# Altium integrated library TI Data Converters Analog to Digital Converter.IntLib: 2198 symbols (part 15 of 164)
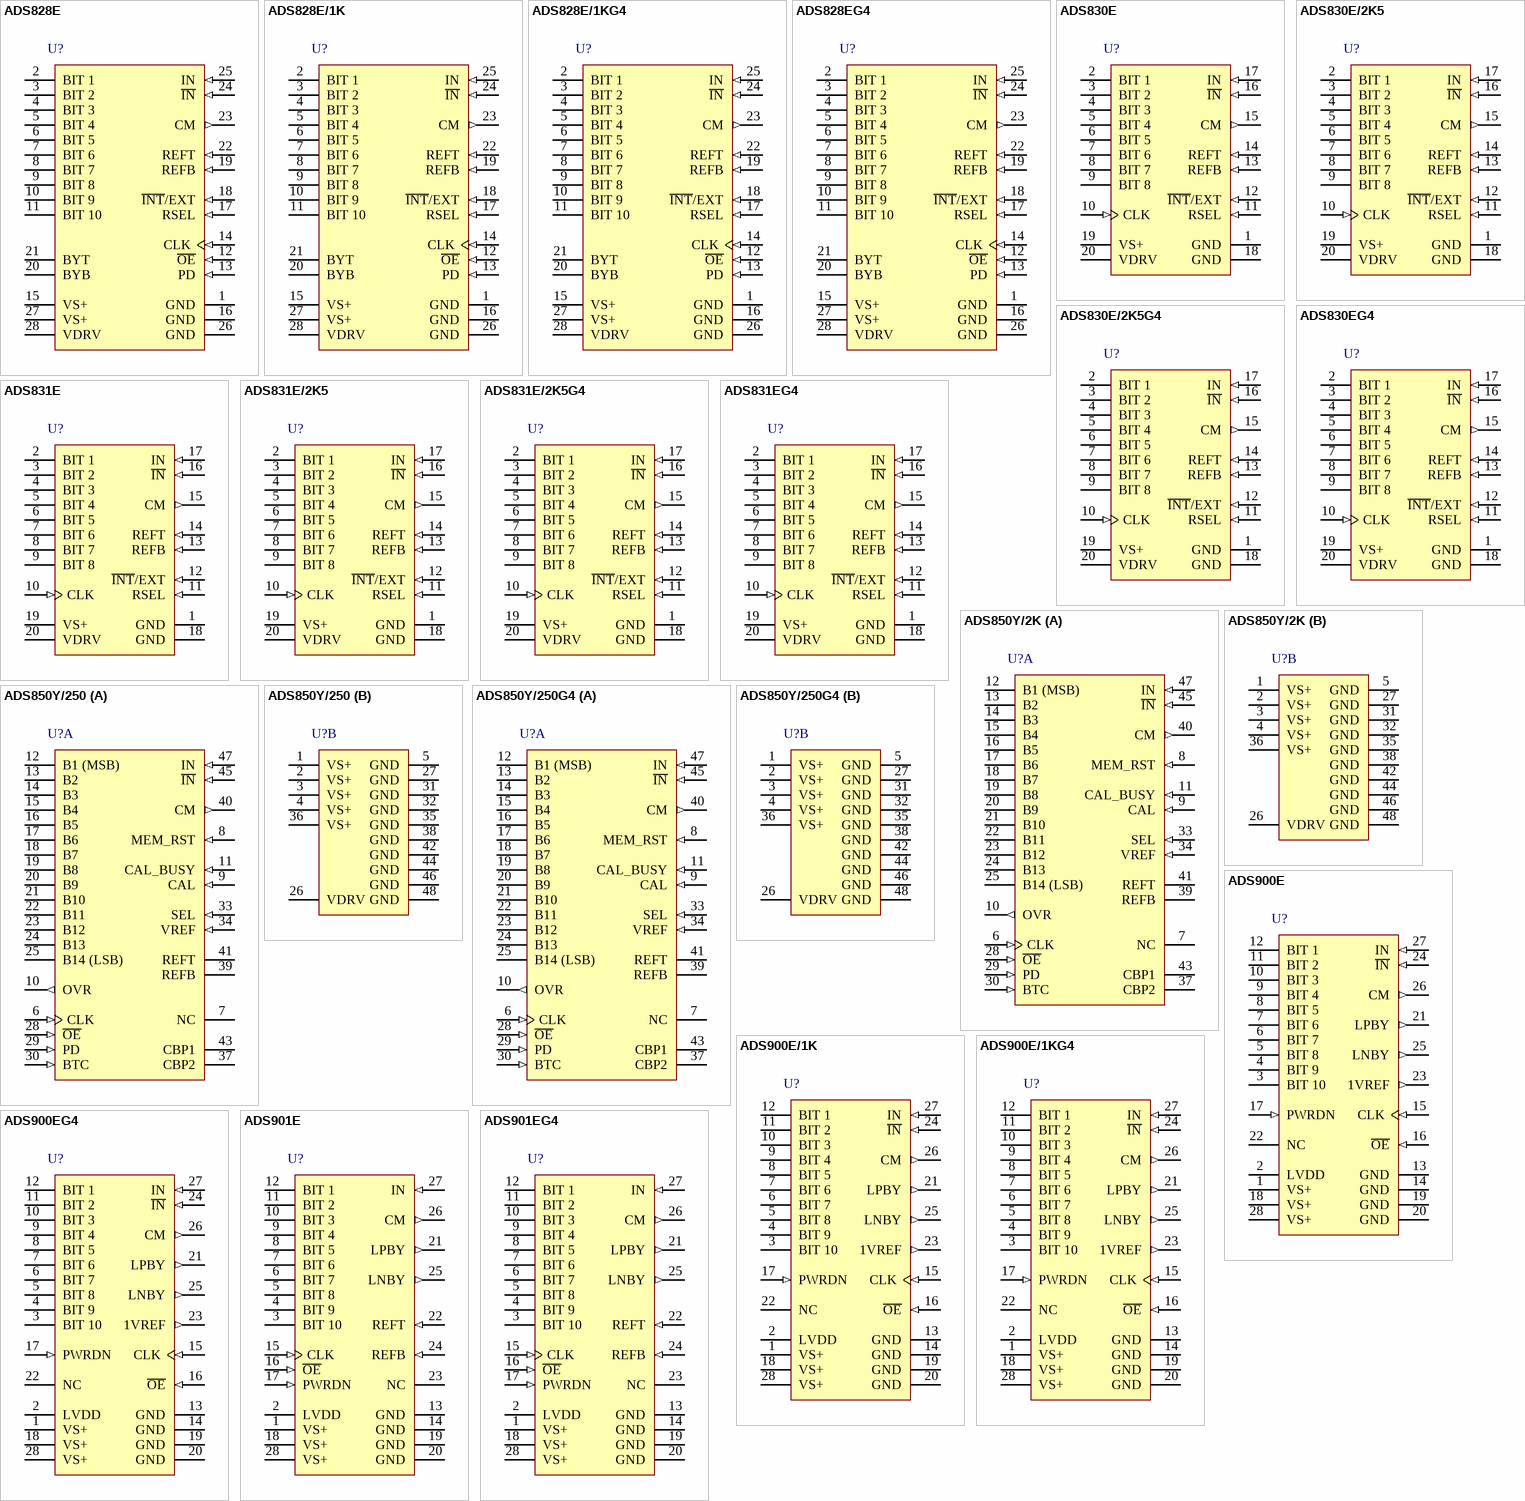
[diagram p140: symbols ADS828E to ADS901EG4]

## ADS900E
designator U?
10-Bit, 20 MSPS ADC Single-Ended / Differential Inputs, Int Reference and Adjustable Fullscale Range, -40 to 85 degC, 28-pin SOP (DB28), Green (RoHS & no Sb/Br); Manufacturer: Texas Instruments; PartNumber: ADS900E; # Input Channels: 1; Analog Voltage AV/DD(Max)(V): 3.7; Analog Voltage AV/DD(Min)(V): 2.7; Architecture: Pipeline; Interface: Parallel CMOS; Resolution(Bits): 10; Sample Rate (max)(SPS): 20M; SFDR(dB): 53; SINAD(dB): 48; SNR(dB): 49; SubFamily: High Speed ADC (>10MSPS); DatasheetVersion: SBAS058A; PackageVersion: 4040065/E, 12/2001; PackageReference: DB28; PackageDescription: 28-Pin Plastic Small Outline, Body 10.2 X 5.3 mm, Pitch 0.65 mm; Supplier 1: Digi-Key; Supplier Part Number 1: 296-2203-5-ND; Digital Supply(Max)(V): 3.7; Digital Supply(Min)(V): 2.7; Eco-Plan: Green (RoHS & no Sb/Br); Mounting Technology: Surface Mount; Code_JEDEC: MO-150; ComponentLink1Description: Manufacturer URL; ComponentLink1URL: http://www.ti.com/; ComponentLink2Description: Datasheet; ComponentLink2URL: http://www.ti.com/general/docs/lit/getliterature.tsp?genericPartNumber=ADS900&fileType=pdf; ComponentLink3Description: Package Specification; ComponentLink3URL: http://www.ti.com/lit/ml/msso002e/msso002e.pdf
footprint TI-DB28_N (SOP, 28-Leads, Body 10.2x5.3mm, Pitch 0.65mm, IPC Medium Density)
footprint TI-DB28_L (SOP, 28-Leads, Body 10.2x5.3mm, Pitch 0.65mm, IPC High Density)
footprint TI-DB28_M (SOP, 28-Leads, Body 10.2x5.3mm, Pitch 0.65mm, IPC Low Density)
pins: 1 VS+ (power) "Analog Supply", 2 LVDD (power) "Output Logic Driver Supply Voltage", 3 BIT 10 (hiz) "Data Bit 10 (D0) (LSB)", 4 BIT 9 (hiz) "Data Bit 9 (D1)", 5 BIT 8 (hiz) "Data Bit 8 (D2)", 6 BIT 7 (hiz) "Data Bit 7 (D3)", 7 BIT 6 (hiz) "Data Bit 6 (D4)", 8 BIT 5 (hiz) "Data Bit 5 (D5)", 9 BIT 4 (hiz) "Data Bit 4 (D6)", 10 BIT 3 (hiz) "Data Bit 3 (D7)", 11 BIT 2 (hiz) "Data Bit 2 (D8)", 12 BIT 1 (hiz) "Data Bit 1 (D9) (MSB)", 13 GND (power) "Analog Ground", 14 GND (power) "Analog Ground", 15 CLK (in) "Convert Clock Input", 16 ~{OE} (in) "Output Enable, Active Low", 17 PWRDN (in) "Power Down Pin", 18 VS+ (power) "Analog Supply", 19 GND (power) "Analog Ground", 20 GND (power) "Analog Ground", 21 LPBY (out) "Positive Ladder Bypass", 22 NC "No Connection", 23 1VREF (out) "1V Reference Output", 24 ~{IN} (in) "Complementary Input", 25 LNBY (out) "Negative Ladder Bypass", 26 CM (out) "Common-Mode Voltage Output", 27 IN (in) "Analog Input", 28 VS+ (power) "Analog Supply"

## ADS900E/1K
designator U?
10-Bit, 20 MSPS ADC Single-Ended / Differential Inputs, Int Reference and Adjustable Fullscale Range, -40 to 85 degC, 28-pin SOP (DB28), Green (RoHS & no Sb/Br); Manufacturer: Texas Instruments; PartNumber: ADS900E/1K; # Input Channels: 1; Analog Voltage AV/DD(Max)(V): 3.7; Analog Voltage AV/DD(Min)(V): 2.7; Architecture: Pipeline; Interface: Parallel CMOS; Resolution(Bits): 10; Sample Rate (max)(SPS): 20M; SFDR(dB): 53; SINAD(dB): 48; SNR(dB): 49; SubFamily: High Speed ADC (>10MSPS); DatasheetVersion: SBAS058A; PackageVersion: 4040065/E, 12/2001; PackageReference: DB28; PackageDescription: 28-Pin Plastic Small Outline, Body 10.2 X 5.3 mm, Pitch 0.65 mm; Supplier 1: Digi-Key; Supplier Part Number 1: TLV2545CDGKG4-ND; Digital Supply(Max)(V): 3.7; Digital Supply(Min)(V): 2.7; Eco-Plan: Green (RoHS & no Sb/Br); Mounting Technology: Surface Mount; Code_JEDEC: MO-150; ComponentLink1Description: Manufacturer URL; ComponentLink1URL: http://www.ti.com/; ComponentLink2Description: Datasheet; ComponentLink2URL: http://www.ti.com/general/docs/lit/getliterature.tsp?genericPartNumber=ADS900&fileType=pdf; ComponentLink3Description: Package Specification; ComponentLink3URL: http://www.ti.com/lit/ml/msso002e/msso002e.pdf
footprint TI-DB28_N (SOP, 28-Leads, Body 10.2x5.3mm, Pitch 0.65mm, IPC Medium Density)
footprint TI-DB28_L (SOP, 28-Leads, Body 10.2x5.3mm, Pitch 0.65mm, IPC High Density)
footprint TI-DB28_M (SOP, 28-Leads, Body 10.2x5.3mm, Pitch 0.65mm, IPC Low Density)
pins: 1 VS+ (power) "Analog Supply", 2 LVDD (power) "Output Logic Driver Supply Voltage", 3 BIT 10 (hiz) "Data Bit 10 (D0) (LSB)", 4 BIT 9 (hiz) "Data Bit 9 (D1)", 5 BIT 8 (hiz) "Data Bit 8 (D2)", 6 BIT 7 (hiz) "Data Bit 7 (D3)", 7 BIT 6 (hiz) "Data Bit 6 (D4)", 8 BIT 5 (hiz) "Data Bit 5 (D5)", 9 BIT 4 (hiz) "Data Bit 4 (D6)", 10 BIT 3 (hiz) "Data Bit 3 (D7)", 11 BIT 2 (hiz) "Data Bit 2 (D8)", 12 BIT 1 (hiz) "Data Bit 1 (D9) (MSB)", 13 GND (power) "Analog Ground", 14 GND (power) "Analog Ground", 15 CLK (in) "Convert Clock Input", 16 ~{OE} (in) "Output Enable, Active Low", 17 PWRDN (in) "Power Down Pin", 18 VS+ (power) "Analog Supply", 19 GND (power) "Analog Ground", 20 GND (power) "Analog Ground", 21 LPBY (out) "Positive Ladder Bypass", 22 NC "No Connection", 23 1VREF (out) "1V Reference Output", 24 ~{IN} (in) "Complementary Input", 25 LNBY (out) "Negative Ladder Bypass", 26 CM (out) "Common-Mode Voltage Output", 27 IN (in) "Analog Input", 28 VS+ (power) "Analog Supply"

## ADS900E/1KG4
designator U?
10-Bit, 20 MSPS ADC Single-Ended / Differential Inputs, Int Reference and Adjustable Fullscale Range, -40 to 85 degC, 28-pin SOP (DB28), Green (RoHS & no Sb/Br); Manufacturer: Texas Instruments; PartNumber: ADS900E/1KG4; # Input Channels: 1; Analog Voltage AV/DD(Max)(V): 3.7; Analog Voltage AV/DD(Min)(V): 2.7; Architecture: Pipeline; Interface: Parallel CMOS; Resolution(Bits): 10; Sample Rate (max)(SPS): 20M; SFDR(dB): 53; SINAD(dB): 48; SNR(dB): 49; SubFamily: High Speed ADC (>10MSPS); DatasheetVersion: SBAS058A; PackageVersion: 4040065/E, 12/2001; PackageReference: DB28; PackageDescription: 28-Pin Plastic Small Outline, Body 10.2 X 5.3 mm, Pitch 0.65 mm; Supplier 1: Digi-Key; Supplier Part Number 1: 296-2985-5-ND; Digital Supply(Max)(V): 3.7; Digital Supply(Min)(V): 2.7; Eco-Plan: Green (RoHS & no Sb/Br); Mounting Technology: Surface Mount; Code_JEDEC: MO-150; ComponentLink1Description: Manufacturer URL; ComponentLink1URL: http://www.ti.com/; ComponentLink2Description: Datasheet; ComponentLink2URL: http://www.ti.com/general/docs/lit/getliterature.tsp?genericPartNumber=ADS900&fileType=pdf; ComponentLink3Description: Package Specification; ComponentLink3URL: http://www.ti.com/lit/ml/msso002e/msso002e.pdf
footprint TI-DB28_N (SOP, 28-Leads, Body 10.2x5.3mm, Pitch 0.65mm, IPC Medium Density)
footprint TI-DB28_L (SOP, 28-Leads, Body 10.2x5.3mm, Pitch 0.65mm, IPC High Density)
footprint TI-DB28_M (SOP, 28-Leads, Body 10.2x5.3mm, Pitch 0.65mm, IPC Low Density)
pins: 1 VS+ (power) "Analog Supply", 2 LVDD (power) "Output Logic Driver Supply Voltage", 3 BIT 10 (hiz) "Data Bit 10 (D0) (LSB)", 4 BIT 9 (hiz) "Data Bit 9 (D1)", 5 BIT 8 (hiz) "Data Bit 8 (D2)", 6 BIT 7 (hiz) "Data Bit 7 (D3)", 7 BIT 6 (hiz) "Data Bit 6 (D4)", 8 BIT 5 (hiz) "Data Bit 5 (D5)", 9 BIT 4 (hiz) "Data Bit 4 (D6)", 10 BIT 3 (hiz) "Data Bit 3 (D7)", 11 BIT 2 (hiz) "Data Bit 2 (D8)", 12 BIT 1 (hiz) "Data Bit 1 (D9) (MSB)", 13 GND (power) "Analog Ground", 14 GND (power) "Analog Ground", 15 CLK (in) "Convert Clock Input", 16 ~{OE} (in) "Output Enable, Active Low", 17 PWRDN (in) "Power Down Pin", 18 VS+ (power) "Analog Supply", 19 GND (power) "Analog Ground", 20 GND (power) "Analog Ground", 21 LPBY (out) "Positive Ladder Bypass", 22 NC "No Connection", 23 1VREF (out) "1V Reference Output", 24 ~{IN} (in) "Complementary Input", 25 LNBY (out) "Negative Ladder Bypass", 26 CM (out) "Common-Mode Voltage Output", 27 IN (in) "Analog Input", 28 VS+ (power) "Analog Supply"

## ADS900EG4
designator U?
10-Bit, 20 MSPS ADC Single-Ended / Differential Inputs, Int Reference and Adjustable Fullscale Range, -40 to 85 degC, 28-pin SOP (DB28), Green (RoHS & no Sb/Br); Manufacturer: Texas Instruments; PartNumber: ADS900EG4; # Input Channels: 1; Analog Voltage AV/DD(Max)(V): 3.7; Analog Voltage AV/DD(Min)(V): 2.7; Architecture: Pipeline; Interface: Parallel CMOS; Resolution(Bits): 10; Sample Rate (max)(SPS): 20M; SFDR(dB): 53; SINAD(dB): 48; SNR(dB): 49; SubFamily: High Speed ADC (>10MSPS); DatasheetVersion: SBAS058A; PackageVersion: 4040065/E, 12/2001; PackageReference: DB28; PackageDescription: 28-Pin Plastic Small Outline, Body 10.2 X 5.3 mm, Pitch 0.65 mm; Supplier 1: Digi-Key; Supplier Part Number 1: TLV2545IDGKG4-ND; Digital Supply(Max)(V): 3.7; Digital Supply(Min)(V): 2.7; Eco-Plan: Green (RoHS & no Sb/Br); Mounting Technology: Surface Mount; Code_JEDEC: MO-150; ComponentLink1Description: Manufacturer URL; ComponentLink1URL: http://www.ti.com/; ComponentLink2Description: Datasheet; ComponentLink2URL: http://www.ti.com/general/docs/lit/getliterature.tsp?genericPartNumber=ADS900&fileType=pdf; ComponentLink3Description: Package Specification; ComponentLink3URL: http://www.ti.com/lit/ml/msso002e/msso002e.pdf
footprint TI-DB28_N (SOP, 28-Leads, Body 10.2x5.3mm, Pitch 0.65mm, IPC Medium Density)
footprint TI-DB28_L (SOP, 28-Leads, Body 10.2x5.3mm, Pitch 0.65mm, IPC High Density)
footprint TI-DB28_M (SOP, 28-Leads, Body 10.2x5.3mm, Pitch 0.65mm, IPC Low Density)
pins: 1 VS+ (power) "Analog Supply", 2 LVDD (power) "Output Logic Driver Supply Voltage", 3 BIT 10 (hiz) "Data Bit 10 (D0) (LSB)", 4 BIT 9 (hiz) "Data Bit 9 (D1)", 5 BIT 8 (hiz) "Data Bit 8 (D2)", 6 BIT 7 (hiz) "Data Bit 7 (D3)", 7 BIT 6 (hiz) "Data Bit 6 (D4)", 8 BIT 5 (hiz) "Data Bit 5 (D5)", 9 BIT 4 (hiz) "Data Bit 4 (D6)", 10 BIT 3 (hiz) "Data Bit 3 (D7)", 11 BIT 2 (hiz) "Data Bit 2 (D8)", 12 BIT 1 (hiz) "Data Bit 1 (D9) (MSB)", 13 GND (power) "Analog Ground", 14 GND (power) "Analog Ground", 15 CLK (in) "Convert Clock Input", 16 ~{OE} (in) "Output Enable, Active Low", 17 PWRDN (in) "Power Down Pin", 18 VS+ (power) "Analog Supply", 19 GND (power) "Analog Ground", 20 GND (power) "Analog Ground", 21 LPBY (out) "Positive Ladder Bypass", 22 NC "No Connection", 23 1VREF (out) "1V Reference Output", 24 ~{IN} (in) "Complementary Input", 25 LNBY (out) "Negative Ladder Bypass", 26 CM (out) "Common-Mode Voltage Output", 27 IN (in) "Analog Input", 28 VS+ (power) "Analog Supply"

## ADS901E
designator U?
10-Bit, 20 MSPS ADC Single-Ended / Differential Inputs, Ext Reference and Adjustable Fullscale Range, -40 to 85 degC, 28-pin SOP (DB28), Green (RoHS & no Sb/Br); Manufacturer: Texas Instruments; PartNumber: ADS901E; # Input Channels: 1; Analog Voltage AV/DD(Max)(V): 3.7; Analog Voltage AV/DD(Min)(V): 2.7; Architecture: Pipeline; Digital Supply(Max)(V): 3; ENOB(Bits): 8; Interface: Parallel CMOS; Resolution(Bits): 10; Sample Rate (max)(SPS): 20M; SFDR(dB): 50; SNR(dB): 53; SubFamily: High Speed ADC (>10MSPS); DatasheetVersion: SBAS054A; PackageVersion: 4040065/E, 12/2001; PackageReference: DB28; PackageDescription: 28-Pin Plastic Small Outline, Body 10.2 X 5.3 mm, Pitch 0.65 mm; Supplier 1: Digi-Key; Supplier Part Number 1: ADS8321ETR-ND; Digital Supply(Min)(V): 3; Eco-Plan: Green (RoHS & no Sb/Br); SINAD(dB): 50; Mounting Technology: Surface Mount; Code_JEDEC: MO-150; ComponentLink1Description: Manufacturer URL; ComponentLink1URL: http://www.ti.com/; ComponentLink2Description: Datasheet; ComponentLink2URL: http://www.ti.com/general/docs/lit/getliterature.tsp?genericPartNumber=ADS901&fileType=pdf; ComponentLink3Description: Package Specification; ComponentLink3URL: http://www.ti.com/lit/ml/msso002e/msso002e.pdf
footprint TI-DB28_N (SOP, 28-Leads, Body 10.2x5.3mm, Pitch 0.65mm, IPC Medium Density)
footprint TI-DB28_L (SOP, 28-Leads, Body 10.2x5.3mm, Pitch 0.65mm, IPC High Density)
footprint TI-DB28_M (SOP, 28-Leads, Body 10.2x5.3mm, Pitch 0.65mm, IPC Low Density)
pins: 1 VS+ (power) "Analog Supply", 2 LVDD (power) "Output Logic Driver Supply Voltage", 3 BIT 10 (hiz) "Data Bit 10 (D0) (LSB)", 4 BIT 9 (hiz) "Data Bit 9 (D1)", 5 BIT 8 (hiz) "Data Bit 8 (D2)", 6 BIT 7 (hiz) "Data Bit 7 (D3)", 7 BIT 6 (hiz) "Data Bit 6 (D4)", 8 BIT 5 (hiz) "Data Bit 5 (D5)", 9 BIT 4 (hiz) "Data Bit 4 (D6)", 10 BIT 3 (hiz) "Data Bit 3 (D7)", 11 BIT 2 (hiz) "Data Bit 2 (D8)", 12 BIT 1 (hiz) "Data Bit 1 (D9) (MSB)", 13 GND (power) "Analog Ground", 14 GND (power) "Analog Ground", 15 CLK (in) "Convert Clock Input", 16 ~{OE} (in) "Output Enable, Active Low", 17 PWRDN (in) "Power Down Pin", 18 VS+ (power) "Analog Supply", 19 GND (power) "Analog Ground", 20 GND (power) "Analog Ground", 21 LPBY (out) "Positive Ladder Bypass", 22 REFT (in) "Top Reference Input", 23 NC "No Connection", 24 REFB (in) "Bottom Reference Input", 25 LNBY (out) "Negative Ladder Bypass", 26 CM (out) "Common-Mode Voltage Output", 27 IN (in) "Analog Input", 28 VS+ (power) "Analog Supply"

## ADS901EG4
designator U?
10-Bit, 20 MSPS ADC Single-Ended / Differential Inputs, Ext Reference and Adjustable Fullscale Range, -40 to 85 degC, 28-pin SOP (DB28), Green (RoHS & no Sb/Br); Manufacturer: Texas Instruments; PartNumber: ADS901EG4; # Input Channels: 1; Analog Voltage AV/DD(Max)(V): 3.7; Analog Voltage AV/DD(Min)(V): 2.7; Architecture: Pipeline; Digital Supply(Max)(V): 3; ENOB(Bits): 8; Interface: Parallel CMOS; Resolution(Bits): 10; Sample Rate (max)(SPS): 20M; SFDR(dB): 50; SNR(dB): 53; SubFamily: High Speed ADC (>10MSPS); DatasheetVersion: SBAS054A; PackageVersion: 4040065/E, 12/2001; PackageReference: DB28; PackageDescription: 28-Pin Plastic Small Outline, Body 10.2 X 5.3 mm, Pitch 0.65 mm; Supplier 1: Digi-Key; Supplier Part Number 1: ADS8321E/250G4-ND; Digital Supply(Min)(V): 3; Eco-Plan: Green (RoHS & no Sb/Br); SINAD(dB): 50; Mounting Technology: Surface Mount; Code_JEDEC: MO-150; ComponentLink1Description: Manufacturer URL; ComponentLink1URL: http://www.ti.com/; ComponentLink2Description: Datasheet; ComponentLink2URL: http://www.ti.com/general/docs/lit/getliterature.tsp?genericPartNumber=ADS901&fileType=pdf; ComponentLink3Description: Package Specification; ComponentLink3URL: http://www.ti.com/lit/ml/msso002e/msso002e.pdf
footprint TI-DB28_N (SOP, 28-Leads, Body 10.2x5.3mm, Pitch 0.65mm, IPC Medium Density)
footprint TI-DB28_L (SOP, 28-Leads, Body 10.2x5.3mm, Pitch 0.65mm, IPC High Density)
footprint TI-DB28_M (SOP, 28-Leads, Body 10.2x5.3mm, Pitch 0.65mm, IPC Low Density)
pins: 1 VS+ (power) "Analog Supply", 2 LVDD (power) "Output Logic Driver Supply Voltage", 3 BIT 10 (hiz) "Data Bit 10 (D0) (LSB)", 4 BIT 9 (hiz) "Data Bit 9 (D1)", 5 BIT 8 (hiz) "Data Bit 8 (D2)", 6 BIT 7 (hiz) "Data Bit 7 (D3)", 7 BIT 6 (hiz) "Data Bit 6 (D4)", 8 BIT 5 (hiz) "Data Bit 5 (D5)", 9 BIT 4 (hiz) "Data Bit 4 (D6)", 10 BIT 3 (hiz) "Data Bit 3 (D7)", 11 BIT 2 (hiz) "Data Bit 2 (D8)", 12 BIT 1 (hiz) "Data Bit 1 (D9) (MSB)", 13 GND (power) "Analog Ground", 14 GND (power) "Analog Ground", 15 CLK (in) "Convert Clock Input", 16 ~{OE} (in) "Output Enable, Active Low", 17 PWRDN (in) "Power Down Pin", 18 VS+ (power) "Analog Supply", 19 GND (power) "Analog Ground", 20 GND (power) "Analog Ground", 21 LPBY (out) "Positive Ladder Bypass", 22 REFT (in) "Top Reference Input", 23 NC "No Connection", 24 REFB (in) "Bottom Reference Input", 25 LNBY (out) "Negative Ladder Bypass", 26 CM (out) "Common-Mode Voltage Output", 27 IN (in) "Analog Input", 28 VS+ (power) "Analog Supply"

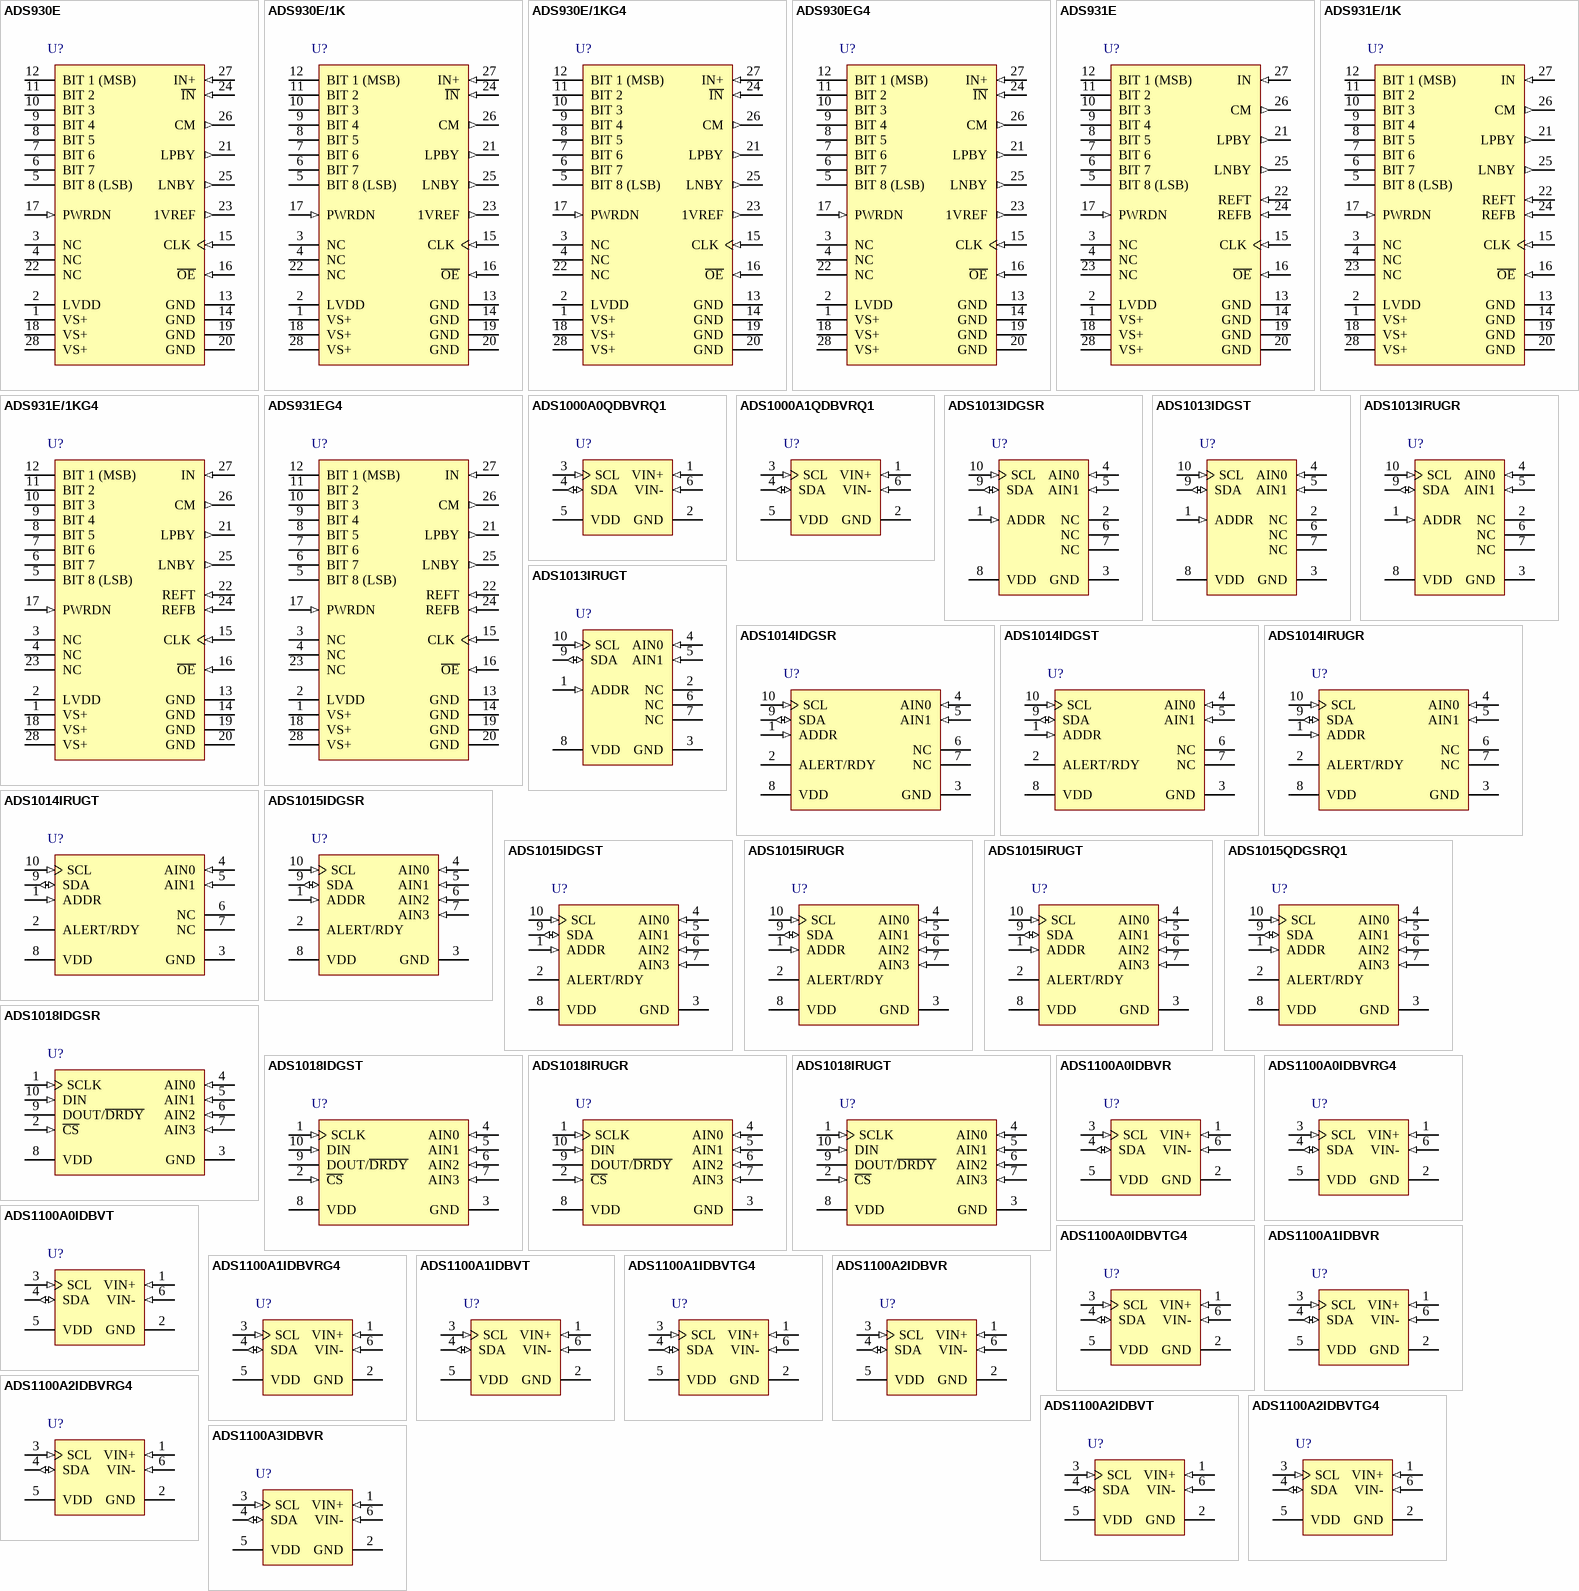
[diagram p11: symbols ADS930E to ADS1100A3IDBVR]

## ADS930E
designator U?
8-Bit, 30 MSPS ADC Single-Ended / Differential Inputs with Internal Reference and Low Power, Power Down, -40 to 85 degC, 28-pin SOP (DB28), Green (RoHS & no Sb/Br); Manufacturer: Texas Instruments; PartNumber: ADS930E; # Input Channels: 1; Analog Voltage AV/DD(Max)(V): 5.25; Analog Voltage AV/DD(Min)(V): 2.7; Architecture: Pipeline; Digital Supply(Max)(V): 5; Digital Supply(Min)(V): 3; ENOB(Bits): 7.1; INL(Max)(+/-LSB): 2.5; Interface: Parallel CMOS; Resolution(Bits): 8; Sample Rate (max)(SPS): 30M; SFDR(dB): 50; SINAD(dB): 45; SNR(dB): 46; SubFamily: High Speed ADC (>10MSPS); DatasheetVersion: SBAS059A; PackageVersion: 4040065/E, 12/2001; PackageReference: DB28; PackageDescription: 28-Pin Plastic Small Outline, Body 10.2 X 5.3 mm, Pitch 0.65 mm; Supplier 1: Digi-Key; Supplier Part Number 1: ADS8321E/2K5-ND; Eco-Plan: Green (RoHS & no Sb/Br); Mounting Technology: Surface Mount; Code_JEDEC: MO-150; ComponentLink1Description: Manufacturer URL; ComponentLink1URL: http://www.ti.com/; ComponentLink2Description: Datasheet; ComponentLink2URL: http://www.ti.com/general/docs/lit/getliterature.tsp?genericPartNumber=ADS930&fileType=pdf; ComponentLink3Description: Package Specification; ComponentLink3URL: http://www.ti.com/lit/ml/msso002e/msso002e.pdf
footprint TI-DB28_N (SOP, 28-Leads, Body 10.2x5.3mm, Pitch 0.65mm, IPC Medium Density)
footprint TI-DB28_L (SOP, 28-Leads, Body 10.2x5.3mm, Pitch 0.65mm, IPC High Density)
footprint TI-DB28_M (SOP, 28-Leads, Body 10.2x5.3mm, Pitch 0.65mm, IPC Low Density)
pins: 1 VS+ (power) "Analog Supply", 2 LVDD (power) "Output Logic Driver Supply Voltage", 3 NC "No Connection", 4 NC "No Connection", 5 BIT 8 (LSB) (hiz) "Data Bit 8 (D7) LSB", 6 BIT 7 (hiz) "Data Bit 7 (D6)", 7 BIT 6 (hiz) "Data Bit 6 (D5)", 8 BIT 5 (hiz) "Data Bit 5 (D4)", 9 BIT 4 (hiz) "Data Bit 4 (D3)", 10 BIT 3 (hiz) "Data Bit 3 (D2)", 11 BIT 2 (hiz) "Data Bit 2 (D1)", 12 BIT 1 (MSB) (hiz) "Data Bit 1 (D0) MSB", 13 GND (power) "Analog Ground", 14 GND (power) "Analog Ground", 15 CLK (in) "Convert Clock Input", 16 ~{OE} (in) "Output Enable, Active Low", 17 PWRDN (in) "Power Down Pin", 18 VS+ (power) "Analog Supply", 19 GND (power) "Analog Ground", 20 GND (power) "Analog Ground", 21 LPBY (out) "Positive Ladder Bypass", 22 NC "No Connection", 23 1VREF (out) "1V Reference Output", 24 ~{IN} (in) "Complementary Input", 25 LNBY (out) "Negative Ladder Bypass", 26 CM (out) "Common-Mode Voltage Output", 27 IN+ (in) "Analog Input", 28 VS+ (power) "Analog Supply"

## ADS930E/1K
designator U?
8-Bit, 30 MSPS ADC Single-Ended / Differential Inputs with Internal Reference and Low Power, Power Down, -40 to 85 degC, 28-pin SOP (DB28), Green (RoHS & no Sb/Br); Manufacturer: Texas Instruments; PartNumber: ADS930E/1K; # Input Channels: 1; Analog Voltage AV/DD(Max)(V): 5.25; Analog Voltage AV/DD(Min)(V): 2.7; Architecture: Pipeline; Digital Supply(Max)(V): 5; Digital Supply(Min)(V): 3; ENOB(Bits): 7.1; INL(Max)(+/-LSB): 2.5; Interface: Parallel CMOS; Resolution(Bits): 8; Sample Rate (max)(SPS): 30M; SFDR(dB): 50; SINAD(dB): 45; SNR(dB): 46; SubFamily: High Speed ADC (>10MSPS); DatasheetVersion: SBAS059A; PackageVersion: 4040065/E, 12/2001; PackageReference: DB28; PackageDescription: 28-Pin Plastic Small Outline, Body 10.2 X 5.3 mm, Pitch 0.65 mm; Supplier 1: Digi-Key; Supplier Part Number 1: ADS8321E/2K5G4-ND; Eco-Plan: Green (RoHS & no Sb/Br); Mounting Technology: Surface Mount; Code_JEDEC: MO-150; ComponentLink1Description: Manufacturer URL; ComponentLink1URL: http://www.ti.com/; ComponentLink2Description: Datasheet; ComponentLink2URL: http://www.ti.com/general/docs/lit/getliterature.tsp?genericPartNumber=ADS930&fileType=pdf; ComponentLink3Description: Package Specification; ComponentLink3URL: http://www.ti.com/lit/ml/msso002e/msso002e.pdf
footprint TI-DB28_N (SOP, 28-Leads, Body 10.2x5.3mm, Pitch 0.65mm, IPC Medium Density)
footprint TI-DB28_L (SOP, 28-Leads, Body 10.2x5.3mm, Pitch 0.65mm, IPC High Density)
footprint TI-DB28_M (SOP, 28-Leads, Body 10.2x5.3mm, Pitch 0.65mm, IPC Low Density)
pins: 1 VS+ (power) "Analog Supply", 2 LVDD (power) "Output Logic Driver Supply Voltage", 3 NC "No Connection", 4 NC "No Connection", 5 BIT 8 (LSB) (hiz) "Data Bit 8 (D7) LSB", 6 BIT 7 (hiz) "Data Bit 7 (D6)", 7 BIT 6 (hiz) "Data Bit 6 (D5)", 8 BIT 5 (hiz) "Data Bit 5 (D4)", 9 BIT 4 (hiz) "Data Bit 4 (D3)", 10 BIT 3 (hiz) "Data Bit 3 (D2)", 11 BIT 2 (hiz) "Data Bit 2 (D1)", 12 BIT 1 (MSB) (hiz) "Data Bit 1 (D0) MSB", 13 GND (power) "Analog Ground", 14 GND (power) "Analog Ground", 15 CLK (in) "Convert Clock Input", 16 ~{OE} (in) "Output Enable, Active Low", 17 PWRDN (in) "Power Down Pin", 18 VS+ (power) "Analog Supply", 19 GND (power) "Analog Ground", 20 GND (power) "Analog Ground", 21 LPBY (out) "Positive Ladder Bypass", 22 NC "No Connection", 23 1VREF (out) "1V Reference Output", 24 ~{IN} (in) "Complementary Input", 25 LNBY (out) "Negative Ladder Bypass", 26 CM (out) "Common-Mode Voltage Output", 27 IN+ (in) "Analog Input", 28 VS+ (power) "Analog Supply"

## ADS930E/1KG4
designator U?
8-Bit, 30 MSPS ADC Single-Ended / Differential Inputs with Internal Reference and Low Power, Power Down, -40 to 85 degC, 28-pin SOP (DB28), Green (RoHS & no Sb/Br); Manufacturer: Texas Instruments; PartNumber: ADS930E/1KG4; # Input Channels: 1; Analog Voltage AV/DD(Max)(V): 5.25; Analog Voltage AV/DD(Min)(V): 2.7; Architecture: Pipeline; Digital Supply(Max)(V): 5; Digital Supply(Min)(V): 3; ENOB(Bits): 7.1; INL(Max)(+/-LSB): 2.5; Interface: Parallel CMOS; Resolution(Bits): 8; Sample Rate (max)(SPS): 30M; SFDR(dB): 50; SINAD(dB): 45; SNR(dB): 46; SubFamily: High Speed ADC (>10MSPS); DatasheetVersion: SBAS059A; PackageVersion: 4040065/E, 12/2001; PackageReference: DB28; PackageDescription: 28-Pin Plastic Small Outline, Body 10.2 X 5.3 mm, Pitch 0.65 mm; Supplier 1: Digi-Key; Supplier Part Number 1: ADS8321EBTR-ND; Eco-Plan: Green (RoHS & no Sb/Br); Mounting Technology: Surface Mount; Code_JEDEC: MO-150; ComponentLink1Description: Manufacturer URL; ComponentLink1URL: http://www.ti.com/; ComponentLink2Description: Datasheet; ComponentLink2URL: http://www.ti.com/general/docs/lit/getliterature.tsp?genericPartNumber=ADS930&fileType=pdf; ComponentLink3Description: Package Specification; ComponentLink3URL: http://www.ti.com/lit/ml/msso002e/msso002e.pdf
footprint TI-DB28_N (SOP, 28-Leads, Body 10.2x5.3mm, Pitch 0.65mm, IPC Medium Density)
footprint TI-DB28_L (SOP, 28-Leads, Body 10.2x5.3mm, Pitch 0.65mm, IPC High Density)
footprint TI-DB28_M (SOP, 28-Leads, Body 10.2x5.3mm, Pitch 0.65mm, IPC Low Density)
pins: 1 VS+ (power) "Analog Supply", 2 LVDD (power) "Output Logic Driver Supply Voltage", 3 NC "No Connection", 4 NC "No Connection", 5 BIT 8 (LSB) (hiz) "Data Bit 8 (D7) LSB", 6 BIT 7 (hiz) "Data Bit 7 (D6)", 7 BIT 6 (hiz) "Data Bit 6 (D5)", 8 BIT 5 (hiz) "Data Bit 5 (D4)", 9 BIT 4 (hiz) "Data Bit 4 (D3)", 10 BIT 3 (hiz) "Data Bit 3 (D2)", 11 BIT 2 (hiz) "Data Bit 2 (D1)", 12 BIT 1 (MSB) (hiz) "Data Bit 1 (D0) MSB", 13 GND (power) "Analog Ground", 14 GND (power) "Analog Ground", 15 CLK (in) "Convert Clock Input", 16 ~{OE} (in) "Output Enable, Active Low", 17 PWRDN (in) "Power Down Pin", 18 VS+ (power) "Analog Supply", 19 GND (power) "Analog Ground", 20 GND (power) "Analog Ground", 21 LPBY (out) "Positive Ladder Bypass", 22 NC "No Connection", 23 1VREF (out) "1V Reference Output", 24 ~{IN} (in) "Complementary Input", 25 LNBY (out) "Negative Ladder Bypass", 26 CM (out) "Common-Mode Voltage Output", 27 IN+ (in) "Analog Input", 28 VS+ (power) "Analog Supply"

## ADS930EG4
designator U?
8-Bit, 30 MSPS ADC Single-Ended / Differential Inputs with Internal Reference and Low Power, Power Down, -40 to 85 degC, 28-pin SOP (DB28), Green (RoHS & no Sb/Br); Manufacturer: Texas Instruments; PartNumber: ADS930EG4; # Input Channels: 1; Analog Voltage AV/DD(Max)(V): 5.25; Analog Voltage AV/DD(Min)(V): 2.7; Architecture: Pipeline; Digital Supply(Max)(V): 5; Digital Supply(Min)(V): 3; ENOB(Bits): 7.1; INL(Max)(+/-LSB): 2.5; Interface: Parallel CMOS; Resolution(Bits): 8; Sample Rate (max)(SPS): 30M; SFDR(dB): 50; SINAD(dB): 45; SNR(dB): 46; SubFamily: High Speed ADC (>10MSPS); DatasheetVersion: SBAS059A; PackageVersion: 4040065/E, 12/2001; PackageReference: DB28; PackageDescription: 28-Pin Plastic Small Outline, Body 10.2 X 5.3 mm, Pitch 0.65 mm; Supplier 1: Digi-Key; Supplier Part Number 1: ADS8321EB/250G4-ND; Eco-Plan: Green (RoHS & no Sb/Br); Mounting Technology: Surface Mount; Code_JEDEC: MO-150; ComponentLink1Description: Manufacturer URL; ComponentLink1URL: http://www.ti.com/; ComponentLink2Description: Datasheet; ComponentLink2URL: http://www.ti.com/general/docs/lit/getliterature.tsp?genericPartNumber=ADS930&fileType=pdf; ComponentLink3Description: Package Specification; ComponentLink3URL: http://www.ti.com/lit/ml/msso002e/msso002e.pdf
footprint TI-DB28_N (SOP, 28-Leads, Body 10.2x5.3mm, Pitch 0.65mm, IPC Medium Density)
footprint TI-DB28_L (SOP, 28-Leads, Body 10.2x5.3mm, Pitch 0.65mm, IPC High Density)
footprint TI-DB28_M (SOP, 28-Leads, Body 10.2x5.3mm, Pitch 0.65mm, IPC Low Density)
pins: 1 VS+ (power) "Analog Supply", 2 LVDD (power) "Output Logic Driver Supply Voltage", 3 NC "No Connection", 4 NC "No Connection", 5 BIT 8 (LSB) (hiz) "Data Bit 8 (D7) LSB", 6 BIT 7 (hiz) "Data Bit 7 (D6)", 7 BIT 6 (hiz) "Data Bit 6 (D5)", 8 BIT 5 (hiz) "Data Bit 5 (D4)", 9 BIT 4 (hiz) "Data Bit 4 (D3)", 10 BIT 3 (hiz) "Data Bit 3 (D2)", 11 BIT 2 (hiz) "Data Bit 2 (D1)", 12 BIT 1 (MSB) (hiz) "Data Bit 1 (D0) MSB", 13 GND (power) "Analog Ground", 14 GND (power) "Analog Ground", 15 CLK (in) "Convert Clock Input", 16 ~{OE} (in) "Output Enable, Active Low", 17 PWRDN (in) "Power Down Pin", 18 VS+ (power) "Analog Supply", 19 GND (power) "Analog Ground", 20 GND (power) "Analog Ground", 21 LPBY (out) "Positive Ladder Bypass", 22 NC "No Connection", 23 1VREF (out) "1V Reference Output", 24 ~{IN} (in) "Complementary Input", 25 LNBY (out) "Negative Ladder Bypass", 26 CM (out) "Common-Mode Voltage Output", 27 IN+ (in) "Analog Input", 28 VS+ (power) "Analog Supply"

## ADS931E
designator U?
8-Bit, 30 MSPS ADC Single-Ended / Differential Inputs with External Reference and Low Power, Power Down, -40 to 85 degC, 28-pin SOP (DB28), Green (RoHS & no Sb/Br); Manufacturer: Texas Instruments; PartNumber: ADS931E; # Input Channels: 1; Analog Voltage AV/DD(Max)(V): 5.5; Analog Voltage AV/DD(Min)(V): 2.7; Architecture: Pipeline; Digital Supply(Max)(V): 5; Digital Supply(Min)(V): 3; ENOB(Bits): 7.2; INL(Max)(+/-LSB): 2.5; Interface: Parallel CMOS; Resolution(Bits): 8; Sample Rate (max)(SPS): 33M; SFDR(dB): 49; SINAD(dB): 45; SNR(dB): 48; SubFamily: High Speed ADC (>10MSPS); DatasheetVersion: SBAS060A; PackageVersion: 4040065/E, 12/2001; PackageReference: DB28; PackageDescription: 28-Pin Plastic Small Outline, Body 10.2 X 5.3 mm, Pitch 0.65 mm; Supplier 1: Digi-Key; Supplier Part Number 1: ADS8321EB/2K5-ND; Eco-Plan: Green (RoHS & no Sb/Br); Mounting Technology: Surface Mount; Code_JEDEC: MO-150; ComponentLink1Description: Manufacturer URL; ComponentLink1URL: http://www.ti.com/; ComponentLink2Description: Datasheet; ComponentLink2URL: http://www.ti.com/general/docs/lit/getliterature.tsp?genericPartNumber=ADS931&fileType=pdf; ComponentLink3Description: Package Specification; ComponentLink3URL: http://www.ti.com/lit/ml/msso002e/msso002e.pdf
footprint TI-DB28_N (SOP, 28-Leads, Body 10.2x5.3mm, Pitch 0.65mm, IPC Medium Density)
footprint TI-DB28_L (SOP, 28-Leads, Body 10.2x5.3mm, Pitch 0.65mm, IPC High Density)
footprint TI-DB28_M (SOP, 28-Leads, Body 10.2x5.3mm, Pitch 0.65mm, IPC Low Density)
pins: 1 VS+ (power) "Analog Supply", 2 LVDD (power) "Output Logic Driver Supply Voltage", 3 NC "No Connection", 4 NC "No Connection", 5 BIT 8 (LSB) (hiz) "Data Bit 8 (D7) LSB", 6 BIT 7 (hiz) "Data Bit 7 (D6)", 7 BIT 6 (hiz) "Data Bit 6 (D5)", 8 BIT 5 (hiz) "Data Bit 5 (D4)", 9 BIT 4 (hiz) "Data Bit 4 (D3)", 10 BIT 3 (hiz) "Data Bit 3 (D2)", 11 BIT 2 (hiz) "Data Bit 2 (D1)", 12 BIT 1 (MSB) (hiz) "Data Bit 1 (D0) MSB", 13 GND (power) "Analog Ground", 14 GND (power) "Analog Ground", 15 CLK (in) "Convert Clock Input", 16 ~{OE} (in) "Output Enable, Active Low", 17 PWRDN (in) "Power Down Pin", 18 VS+ (power) "Analog Supply", 19 GND (power) "Analog Ground", 20 GND (power) "Analog Ground", 21 LPBY (out) "Positive Ladder Bypass", 22 REFT (in) "Reference Voltage Top", 23 NC "No Connection", 24 REFB (in) "Reference Voltage Bottom", 25 LNBY (out) "Negative Ladder Bypass", 26 CM (out) "Common-Mode Pin", 27 IN (in) "Analog Input", 28 VS+ (power) "Analog Supply"

## ADS931E/1K
designator U?
8-Bit, 30 MSPS ADC Single-Ended / Differential Inputs with External Reference and Low Power, Power Down, -40 to 85 degC, 28-pin SOP (DB28), Green (RoHS & no Sb/Br); Manufacturer: Texas Instruments; PartNumber: ADS931E/1K; # Input Channels: 1; Analog Voltage AV/DD(Max)(V): 5.5; Analog Voltage AV/DD(Min)(V): 2.7; Architecture: Pipeline; Digital Supply(Max)(V): 5; Digital Supply(Min)(V): 3; ENOB(Bits): 7.2; INL(Max)(+/-LSB): 2.5; Interface: Parallel CMOS; Resolution(Bits): 8; Sample Rate (max)(SPS): 33M; SFDR(dB): 49; SINAD(dB): 45; SNR(dB): 48; SubFamily: High Speed ADC (>10MSPS); DatasheetVersion: SBAS060A; PackageVersion: 4040065/E, 12/2001; PackageReference: DB28; PackageDescription: 28-Pin Plastic Small Outline, Body 10.2 X 5.3 mm, Pitch 0.65 mm; Supplier 1: Digi-Key; Supplier Part Number 1: ADS8321EB/2K5G4-ND; Eco-Plan: Green (RoHS & no Sb/Br); Mounting Technology: Surface Mount; Code_JEDEC: MO-150; ComponentLink1Description: Manufacturer URL; ComponentLink1URL: http://www.ti.com/; ComponentLink2Description: Datasheet; ComponentLink2URL: http://www.ti.com/general/docs/lit/getliterature.tsp?genericPartNumber=ADS931&fileType=pdf; ComponentLink3Description: Package Specification; ComponentLink3URL: http://www.ti.com/lit/ml/msso002e/msso002e.pdf
footprint TI-DB28_N (SOP, 28-Leads, Body 10.2x5.3mm, Pitch 0.65mm, IPC Medium Density)
footprint TI-DB28_L (SOP, 28-Leads, Body 10.2x5.3mm, Pitch 0.65mm, IPC High Density)
footprint TI-DB28_M (SOP, 28-Leads, Body 10.2x5.3mm, Pitch 0.65mm, IPC Low Density)
pins: 1 VS+ (power) "Analog Supply", 2 LVDD (power) "Output Logic Driver Supply Voltage", 3 NC "No Connection", 4 NC "No Connection", 5 BIT 8 (LSB) (hiz) "Data Bit 8 (D7) LSB", 6 BIT 7 (hiz) "Data Bit 7 (D6)", 7 BIT 6 (hiz) "Data Bit 6 (D5)", 8 BIT 5 (hiz) "Data Bit 5 (D4)", 9 BIT 4 (hiz) "Data Bit 4 (D3)", 10 BIT 3 (hiz) "Data Bit 3 (D2)", 11 BIT 2 (hiz) "Data Bit 2 (D1)", 12 BIT 1 (MSB) (hiz) "Data Bit 1 (D0) MSB", 13 GND (power) "Analog Ground", 14 GND (power) "Analog Ground", 15 CLK (in) "Convert Clock Input", 16 ~{OE} (in) "Output Enable, Active Low", 17 PWRDN (in) "Power Down Pin", 18 VS+ (power) "Analog Supply", 19 GND (power) "Analog Ground", 20 GND (power) "Analog Ground", 21 LPBY (out) "Positive Ladder Bypass", 22 REFT (in) "Reference Voltage Top", 23 NC "No Connection", 24 REFB (in) "Reference Voltage Bottom", 25 LNBY (out) "Negative Ladder Bypass", 26 CM (out) "Common-Mode Pin", 27 IN (in) "Analog Input", 28 VS+ (power) "Analog Supply"

## ADS931E/1KG4
designator U?
8-Bit, 30 MSPS ADC Single-Ended / Differential Inputs with External Reference and Low Power, Power Down, -40 to 85 degC, 28-pin SOP (DB28), Green (RoHS & no Sb/Br); Manufacturer: Texas Instruments; PartNumber: ADS931E/1KG4; # Input Channels: 1; Analog Voltage AV/DD(Max)(V): 5.5; Analog Voltage AV/DD(Min)(V): 2.7; Architecture: Pipeline; Digital Supply(Max)(V): 5; Digital Supply(Min)(V): 3; ENOB(Bits): 7.2; INL(Max)(+/-LSB): 2.5; Interface: Parallel CMOS; Resolution(Bits): 8; Sample Rate (max)(SPS): 33M; SFDR(dB): 49; SINAD(dB): 45; SNR(dB): 48; SubFamily: High Speed ADC (>10MSPS); DatasheetVersion: SBAS060A; PackageVersion: 4040065/E, 12/2001; PackageReference: DB28; PackageDescription: 28-Pin Plastic Small Outline, Body 10.2 X 5.3 mm, Pitch 0.65 mm; Supplier 1: Digi-Key; Supplier Part Number 1: 296-12501-5-ND; Eco-Plan: Green (RoHS & no Sb/Br); Mounting Technology: Surface Mount; Code_JEDEC: MO-150; ComponentLink1Description: Manufacturer URL; ComponentLink1URL: http://www.ti.com/; ComponentLink2Description: Datasheet; ComponentLink2URL: http://www.ti.com/general/docs/lit/getliterature.tsp?genericPartNumber=ADS931&fileType=pdf; ComponentLink3Description: Package Specification; ComponentLink3URL: http://www.ti.com/lit/ml/msso002e/msso002e.pdf
footprint TI-DB28_N (SOP, 28-Leads, Body 10.2x5.3mm, Pitch 0.65mm, IPC Medium Density)
footprint TI-DB28_L (SOP, 28-Leads, Body 10.2x5.3mm, Pitch 0.65mm, IPC High Density)
footprint TI-DB28_M (SOP, 28-Leads, Body 10.2x5.3mm, Pitch 0.65mm, IPC Low Density)
pins: 1 VS+ (power) "Analog Supply", 2 LVDD (power) "Output Logic Driver Supply Voltage", 3 NC "No Connection", 4 NC "No Connection", 5 BIT 8 (LSB) (hiz) "Data Bit 8 (D7) LSB", 6 BIT 7 (hiz) "Data Bit 7 (D6)", 7 BIT 6 (hiz) "Data Bit 6 (D5)", 8 BIT 5 (hiz) "Data Bit 5 (D4)", 9 BIT 4 (hiz) "Data Bit 4 (D3)", 10 BIT 3 (hiz) "Data Bit 3 (D2)", 11 BIT 2 (hiz) "Data Bit 2 (D1)", 12 BIT 1 (MSB) (hiz) "Data Bit 1 (D0) MSB", 13 GND (power) "Analog Ground", 14 GND (power) "Analog Ground", 15 CLK (in) "Convert Clock Input", 16 ~{OE} (in) "Output Enable, Active Low", 17 PWRDN (in) "Power Down Pin", 18 VS+ (power) "Analog Supply", 19 GND (power) "Analog Ground", 20 GND (power) "Analog Ground", 21 LPBY (out) "Positive Ladder Bypass", 22 REFT (in) "Reference Voltage Top", 23 NC "No Connection", 24 REFB (in) "Reference Voltage Bottom", 25 LNBY (out) "Negative Ladder Bypass", 26 CM (out) "Common-Mode Pin", 27 IN (in) "Analog Input", 28 VS+ (power) "Analog Supply"

## ADS931EG4
designator U?
8-Bit, 30 MSPS ADC Single-Ended / Differential Inputs with External Reference and Low Power, Power Down, -40 to 85 degC, 28-pin SOP (DB28), Green (RoHS & no Sb/Br); Manufacturer: Texas Instruments; PartNumber: ADS931EG4; # Input Channels: 1; Analog Voltage AV/DD(Max)(V): 5.5; Analog Voltage AV/DD(Min)(V): 2.7; Architecture: Pipeline; Digital Supply(Max)(V): 5; Digital Supply(Min)(V): 3; ENOB(Bits): 7.2; INL(Max)(+/-LSB): 2.5; Interface: Parallel CMOS; Resolution(Bits): 8; Sample Rate (max)(SPS): 33M; SFDR(dB): 49; SINAD(dB): 45; SNR(dB): 48; SubFamily: High Speed ADC (>10MSPS); DatasheetVersion: SBAS060A; PackageVersion: 4040065/E, 12/2001; PackageReference: DB28; PackageDescription: 28-Pin Plastic Small Outline, Body 10.2 X 5.3 mm, Pitch 0.65 mm; Supplier 1: Digi-Key; Supplier Part Number 1: TLC4545IDG4-ND; Eco-Plan: Green (RoHS & no Sb/Br); Mounting Technology: Surface Mount; Code_JEDEC: MO-150; ComponentLink1Description: Manufacturer URL; ComponentLink1URL: http://www.ti.com/; ComponentLink2Description: Datasheet; ComponentLink2URL: http://www.ti.com/general/docs/lit/getliterature.tsp?genericPartNumber=ADS931&fileType=pdf; ComponentLink3Description: Package Specification; ComponentLink3URL: http://www.ti.com/lit/ml/msso002e/msso002e.pdf
footprint TI-DB28_N (SOP, 28-Leads, Body 10.2x5.3mm, Pitch 0.65mm, IPC Medium Density)
footprint TI-DB28_L (SOP, 28-Leads, Body 10.2x5.3mm, Pitch 0.65mm, IPC High Density)
footprint TI-DB28_M (SOP, 28-Leads, Body 10.2x5.3mm, Pitch 0.65mm, IPC Low Density)
pins: 1 VS+ (power) "Analog Supply", 2 LVDD (power) "Output Logic Driver Supply Voltage", 3 NC "No Connection", 4 NC "No Connection", 5 BIT 8 (LSB) (hiz) "Data Bit 8 (D7) LSB", 6 BIT 7 (hiz) "Data Bit 7 (D6)", 7 BIT 6 (hiz) "Data Bit 6 (D5)", 8 BIT 5 (hiz) "Data Bit 5 (D4)", 9 BIT 4 (hiz) "Data Bit 4 (D3)", 10 BIT 3 (hiz) "Data Bit 3 (D2)", 11 BIT 2 (hiz) "Data Bit 2 (D1)", 12 BIT 1 (MSB) (hiz) "Data Bit 1 (D0) MSB", 13 GND (power) "Analog Ground", 14 GND (power) "Analog Ground", 15 CLK (in) "Convert Clock Input", 16 ~{OE} (in) "Output Enable, Active Low", 17 PWRDN (in) "Power Down Pin", 18 VS+ (power) "Analog Supply", 19 GND (power) "Analog Ground", 20 GND (power) "Analog Ground", 21 LPBY (out) "Positive Ladder Bypass", 22 REFT (in) "Reference Voltage Top", 23 NC "No Connection", 24 REFB (in) "Reference Voltage Bottom", 25 LNBY (out) "Negative Ladder Bypass", 26 CM (out) "Common-Mode Pin", 27 IN (in) "Analog Input", 28 VS+ (power) "Analog Supply"

## ADS1000A0QDBVRQ1
designator U?
Automotive Catalog Low Cost 12-Bit ADC with I2C Interface, -40 to 125 degC, 6-pin SOT23 (DBV6), Green (RoHS & no Sb/Br); Manufacturer: Texas Instruments; PartNumber: ADS1000A0QDBVRQ1; # Input Channels: 1; Analog Voltage AV/DD(Max)(V): 5.5; Analog Voltage AV/DD(Min)(V): 2.7; Architecture: Delta-Sigma; Interface: Serial I2C; Resolution(Bits): 12; Sample Rate (max)(SPS): 184; SubFamily: High Speed ADC (>10MSPS); DatasheetVersion: SBAS480A; PackageVersion: 4073253-5/K, 03/2006; PackageReference: DBV6; PackageDescription: 6-Pin Plastic Small Outline, Body 1.6 x 2.9 mm, Pitch 0.95 mm; Supplier 1: Digi-Key; Supplier Part Number 1: TLC4545IDR-ND; Digital Supply(Max)(V): 5.5; Digital Supply(Min)(V): 2.7; Eco-Plan: Green (RoHS & no Sb/Br); INL(Max)(+/-LSB): 1; Mounting Technology: Surface Mount; Code_JEDEC: MO-178; ComponentLink1Description: Manufacturer URL; ComponentLink1URL: http://www.ti.com/; ComponentLink2Description: Datasheet; ComponentLink2URL: http://www.ti.com/general/docs/lit/getliterature.tsp?genericPartNumber=ADS1000-Q1&fileType=pdf; ComponentLink3Description: Package Specification; ComponentLink3URL: http://www.ti.com/litv/pdf/mpds026h
footprint TI-DBV6_N (SOT23, 6-Leads, Body 2.9x1.6mm, Pitch 0.95mm, IPC Medium Density)
footprint TI-DBV6_L (SOT23, 6-Leads, Body 2.9x1.6mm, Pitch 0.95mm, IPC High Density)
footprint TI-DBV6_M (SOT23, 6-Leads, Body 2.9x1.6mm, Pitch 0.95mm, IPC Low Density)
pins: 1 VIN+ (in), 2 GND (power), 3 SCL (in), 4 SDA (io), 5 VDD (power), 6 VIN- (in)

## ADS1000A1QDBVRQ1
designator U?
Automotive Catalog Low Cost 12-Bit ADC with I2C Interface, -40 to 125 degC, 6-pin SOT23 (DBV6), Green (RoHS & no Sb/Br); Manufacturer: Texas Instruments; PartNumber: ADS1000A1QDBVRQ1; # Input Channels: 1; Analog Voltage AV/DD(Max)(V): 5.5; Analog Voltage AV/DD(Min)(V): 2.7; Architecture: Delta-Sigma; Interface: Serial I2C; Resolution(Bits): 12; Sample Rate (max)(SPS): 184; SubFamily: High Speed ADC (>10MSPS); DatasheetVersion: SBAS480A; PackageVersion: 4073253-5/K, 03/2006; PackageReference: DBV6; PackageDescription: 6-Pin Plastic Small Outline, Body 1.6 x 2.9 mm, Pitch 0.95 mm; Supplier 1: Digi-Key; Supplier Part Number 1: TLC4545IDRG4-ND; Digital Supply(Max)(V): 5.5; Digital Supply(Min)(V): 2.7; Eco-Plan: Green (RoHS & no Sb/Br); INL(Max)(+/-LSB): 1; Mounting Technology: Surface Mount; Code_JEDEC: MO-178; ComponentLink1Description: Manufacturer URL; ComponentLink1URL: http://www.ti.com/; ComponentLink2Description: Datasheet; ComponentLink2URL: http://www.ti.com/general/docs/lit/getliterature.tsp?genericPartNumber=ADS1000-Q1&fileType=pdf; ComponentLink3Description: Package Specification; ComponentLink3URL: http://www.ti.com/litv/pdf/mpds026h
footprint TI-DBV6_N (SOT23, 6-Leads, Body 2.9x1.6mm, Pitch 0.95mm, IPC Medium Density)
footprint TI-DBV6_L (SOT23, 6-Leads, Body 2.9x1.6mm, Pitch 0.95mm, IPC High Density)
footprint TI-DBV6_M (SOT23, 6-Leads, Body 2.9x1.6mm, Pitch 0.95mm, IPC Low Density)
pins: 1 VIN+ (in), 2 GND (power), 3 SCL (in), 4 SDA (io), 5 VDD (power), 6 VIN- (in)

## ADS1013IDGSR
designator U?
12-Bit ADC with Integrated Oscillator, and Reference, -40 to 125 degC, 10-pin SOP (DGS10), Green (RoHS & no Sb/Br); Manufacturer: Texas Instruments; PartNumber: ADS1013IDGSR; # Input Channels: 1; Analog Voltage AV/DD(Max)(V): 5.5; Analog Voltage AV/DD(Min)(V): 2; Architecture: Delta-Sigma; INL(Max)(+/-LSB): 0.5; Interface: Serial I2C; Resolution(Bits): 12; Sample Rate (max)(SPS): 3.3k; SubFamily: Precision ADC (<=10MSPS); DatasheetVersion: SBAS473C; PackageVersion: 4073272/C, 02/2004; PackageReference: DGS10; PackageDescription: 10-Pin Plastic Small Outline, Body 3 x 3 mm, Pitch 0.5 mm; Supplier 1: Digi-Key; Supplier Part Number 1: 296-12500-5-ND; Digital Supply(Max)(V): 5.5; Digital Supply(Min)(V): 2; Eco-Plan: Green (RoHS & no Sb/Br); Mounting Technology: Surface Mount; Code_JEDEC: MO-153; ComponentLink1Description: Manufacturer URL; ComponentLink1URL: http://www.ti.com/; ComponentLink2Description: Datasheet; ComponentLink2URL: http://www.ti.com/general/docs/lit/getliterature.tsp?genericPartNumber=ADS1013&fileType=pdf; ComponentLink3Description: Package Specification; ComponentLink3URL: http://www.ti.com/lit/ml/mpds035b/mpds035b.pdf
footprint TI-DGS10_N (SOP, 10-Leads, Body 3x3mm, Pitch 0.5mm, IPC Medium Density)
footprint TI-DGS10_L (SOP, 10-Leads, Body 3x3mm, Pitch 0.5mm, IPC High Density)
footprint TI-DGS10_M (SOP, 10-Leads, Body 3x3mm, Pitch 0.5mm, IPC Low Density)
pins: 1 ADDR (in) "I2C slave address select", 2 NC, 3 GND (power) "Ground", 4 AIN0 (in) "Differential channel 1: Positive input or single-ended channel 1 input", 5 AIN1 (in) "Differential channel 1: Negative input or single-ended channel 2 input", 6 NC, 7 NC, 8 VDD (power) "Power supply: 2.0V to 5.5V", 9 SDA (io) "Serial data: Transmits and receives data", 10 SCL (in) "Serial clock input: Clocks data on SDA"

## ADS1013IDGST
designator U?
12-Bit ADC with Integrated Oscillator, and Reference, -40 to 125 degC, 10-pin SOP (DGS10), Green (RoHS & no Sb/Br); Manufacturer: Texas Instruments; PartNumber: ADS1013IDGST; # Input Channels: 1; Analog Voltage AV/DD(Max)(V): 5.5; Analog Voltage AV/DD(Min)(V): 2; Architecture: Delta-Sigma; INL(Max)(+/-LSB): 0.5; Interface: Serial I2C; Resolution(Bits): 12; Sample Rate (max)(SPS): 3.3k; SubFamily: Precision ADC (<=10MSPS); DatasheetVersion: SBAS473C; PackageVersion: 4073272/C, 02/2004; PackageReference: DGS10; PackageDescription: 10-Pin Plastic Small Outline, Body 3 x 3 mm, Pitch 0.5 mm; Supplier 1: Digi-Key; Supplier Part Number 1: TLC4541IDG4-ND; Digital Supply(Max)(V): 5.5; Digital Supply(Min)(V): 2; Eco-Plan: Green (RoHS & no Sb/Br); Mounting Technology: Surface Mount; Code_JEDEC: MO-153; ComponentLink1Description: Manufacturer URL; ComponentLink1URL: http://www.ti.com/; ComponentLink2Description: Datasheet; ComponentLink2URL: http://www.ti.com/general/docs/lit/getliterature.tsp?genericPartNumber=ADS1013&fileType=pdf; ComponentLink3Description: Package Specification; ComponentLink3URL: http://www.ti.com/lit/ml/mpds035b/mpds035b.pdf
footprint TI-DGS10_N (SOP, 10-Leads, Body 3x3mm, Pitch 0.5mm, IPC Medium Density)
footprint TI-DGS10_L (SOP, 10-Leads, Body 3x3mm, Pitch 0.5mm, IPC High Density)
footprint TI-DGS10_M (SOP, 10-Leads, Body 3x3mm, Pitch 0.5mm, IPC Low Density)
pins: 1 ADDR (in) "I2C slave address select", 2 NC, 3 GND (power) "Ground", 4 AIN0 (in) "Differential channel 1: Positive input or single-ended channel 1 input", 5 AIN1 (in) "Differential channel 1: Negative input or single-ended channel 2 input", 6 NC, 7 NC, 8 VDD (power) "Power supply: 2.0V to 5.5V", 9 SDA (io) "Serial data: Transmits and receives data", 10 SCL (in) "Serial clock input: Clocks data on SDA"

## ADS1013IRUGR
designator U?
12-Bit ADC with Integrated Oscillator, and Reference, -40 to 125 degC, 10-pin X2QFN (RUG10), Green (RoHS & no Sb/Br); Manufacturer: Texas Instruments; PartNumber: ADS1013IRUGR; # Input Channels: 1; Analog Voltage AV/DD(Max)(V): 5.5; Analog Voltage AV/DD(Min)(V): 2; Architecture: Delta-Sigma; INL(Max)(+/-LSB): 0.5; Interface: Serial I2C; Resolution(Bits): 12; Sample Rate (max)(SPS): 3.3k; SubFamily: Precision ADC (<=10MSPS); DatasheetVersion: SBAS473C; PackageVersion: 4208528-3/B, 04/2008; PackageReference: RUG10; PackageDescription: 10-Pin Plastic Quad Flatpack, Body 1.5 x 2 mm, Pitch 0.5 mm; Supplier 1: Digi-Key; Supplier Part Number 1: 296-12499-5-ND; Digital Supply(Max)(V): 5.5; Digital Supply(Min)(V): 2; Eco-Plan: Green (RoHS & no Sb/Br); Mounting Technology: Surface Mount; Code_JEDEC: MO-288; ComponentLink1Description: Manufacturer URL; ComponentLink1URL: http://www.ti.com/; ComponentLink2Description: Datasheet; ComponentLink2URL: http://www.ti.com/general/docs/lit/getliterature.tsp?genericPartNumber=ADS1013&fileType=pdf; ComponentLink3Description: Package Specification; ComponentLink3URL: http://www.ti.com/litv/pdf/mpqf216a
footprint TI-RUG10_V (QFN, 10-Leads, Body 2x1.5mm)
pins: 1 ADDR (in) "I2C slave address select", 2 NC, 3 GND (power) "Ground", 4 AIN0 (in) "Differential channel 1: Positive input or single-ended channel 1 input", 5 AIN1 (in) "Differential channel 1: Negative input or single-ended channel 2 input", 6 NC, 7 NC, 8 VDD (power) "Power supply: 2.0V to 5.5V", 9 SDA (io) "Serial data: Transmits and receives data", 10 SCL (in) "Serial clock input: Clocks data on SDA"

## ADS1013IRUGT
designator U?
12-Bit ADC with Integrated Oscillator, and Reference, -40 to 125 degC, 10-pin X2QFN (RUG10), Green (RoHS & no Sb/Br); Manufacturer: Texas Instruments; PartNumber: ADS1013IRUGT; # Input Channels: 1; Analog Voltage AV/DD(Max)(V): 5.5; Analog Voltage AV/DD(Min)(V): 2; Architecture: Delta-Sigma; INL(Max)(+/-LSB): 0.5; Interface: Serial I2C; Resolution(Bits): 12; Sample Rate (max)(SPS): 3.3k; SubFamily: Precision ADC (<=10MSPS); DatasheetVersion: SBAS473C; PackageVersion: 4208528-3/B, 04/2008; PackageReference: RUG10; PackageDescription: 10-Pin Plastic Quad Flatpack, Body 1.5 x 2 mm, Pitch 0.5 mm; Supplier 1: Digi-Key; Supplier Part Number 1: TLC3545IDG4-ND; Digital Supply(Max)(V): 5.5; Digital Supply(Min)(V): 2; Eco-Plan: Green (RoHS & no Sb/Br); Mounting Technology: Surface Mount; Code_JEDEC: MO-288; ComponentLink1Description: Manufacturer URL; ComponentLink1URL: http://www.ti.com/; ComponentLink2Description: Datasheet; ComponentLink2URL: http://www.ti.com/general/docs/lit/getliterature.tsp?genericPartNumber=ADS1013&fileType=pdf; ComponentLink3Description: Package Specification; ComponentLink3URL: http://www.ti.com/litv/pdf/mpqf216a
footprint TI-RUG10_V (QFN, 10-Leads, Body 2x1.5mm)
pins: 1 ADDR (in) "I2C slave address select", 2 NC, 3 GND (power) "Ground", 4 AIN0 (in) "Differential channel 1: Positive input or single-ended channel 1 input", 5 AIN1 (in) "Differential channel 1: Negative input or single-ended channel 2 input", 6 NC, 7 NC, 8 VDD (power) "Power supply: 2.0V to 5.5V", 9 SDA (io) "Serial data: Transmits and receives data", 10 SCL (in) "Serial clock input: Clocks data on SDA"

## ADS1014IDGSR
designator U?
12-Bit ADC with Integrated PGA, Comparator, Oscillator, and Reference, -40 to 125 degC, 10-pin SOP (DGS10), Green (RoHS & no Sb/Br); Manufacturer: Texas Instruments; PartNumber: ADS1014IDGSR; # Input Channels: 1; Analog Voltage AV/DD(Max)(V): 5.5; Analog Voltage AV/DD(Min)(V): 2; Architecture: Delta-Sigma; INL(Max)(+/-LSB): 0.5; Interface: Serial I2C; Resolution(Bits): 12; Sample Rate (max)(SPS): 3.3k; SubFamily: Precision ADC (<=10MSPS); DatasheetVersion: SBAS473C; PackageVersion: 4073272/C, 02/2004; PackageReference: DGS10; PackageDescription: 10-Pin Plastic Small Outline, Body 3 x 3 mm, Pitch 0.5 mm; Supplier 1: Digi-Key; Supplier Part Number 1: TLC3545IDR-ND; Digital Supply(Max)(V): 5.5; Digital Supply(Min)(V): 2; Eco-Plan: Green (RoHS & no Sb/Br); Mounting Technology: Surface Mount; Code_JEDEC: MO-153; ComponentLink1Description: Manufacturer URL; ComponentLink1URL: http://www.ti.com/; ComponentLink2Description: Datasheet; ComponentLink2URL: http://www.ti.com/general/docs/lit/getliterature.tsp?genericPartNumber=ADS1014&fileType=pdf; ComponentLink3Description: Package Specification; ComponentLink3URL: http://www.ti.com/lit/ml/mpds035b/mpds035b.pdf
footprint TI-DGS10_N (SOP, 10-Leads, Body 3x3mm, Pitch 0.5mm, IPC Medium Density)
footprint TI-DGS10_L (SOP, 10-Leads, Body 3x3mm, Pitch 0.5mm, IPC High Density)
footprint TI-DGS10_M (SOP, 10-Leads, Body 3x3mm, Pitch 0.5mm, IPC Low Density)
pins: 1 ADDR (in) "I2C slave address select", 2 ALERT/RDY (oc) "Digital comparator output or conversion ready", 3 GND (power) "Ground", 4 AIN0 (in) "Differential channel 1: Positive input or single-ended channel 1 input", 5 AIN1 (in) "Differential channel 1: Negative input or single-ended channel 2 input", 6 NC, 7 NC, 8 VDD (power) "Power supply: 2.0V to 5.5V", 9 SDA (io) "Serial data: Transmits and receives data", 10 SCL (in) "Serial clock input: Clocks data on SDA"

## ADS1014IDGST
designator U?
12-Bit ADC with Integrated PGA, Comparator, Oscillator, and Reference, -40 to 125 degC, 10-pin SOP (DGS10), Green (RoHS & no Sb/Br); Manufacturer: Texas Instruments; PartNumber: ADS1014IDGST; # Input Channels: 1; Analog Voltage AV/DD(Max)(V): 5.5; Analog Voltage AV/DD(Min)(V): 2; Architecture: Delta-Sigma; INL(Max)(+/-LSB): 0.5; Interface: Serial I2C; Resolution(Bits): 12; Sample Rate (max)(SPS): 3.3k; SubFamily: Precision ADC (<=10MSPS); DatasheetVersion: SBAS473C; PackageVersion: 4073272/C, 02/2004; PackageReference: DGS10; PackageDescription: 10-Pin Plastic Small Outline, Body 3 x 3 mm, Pitch 0.5 mm; Supplier 1: Digi-Key; Supplier Part Number 1: TLC3545IDRG4-ND; Digital Supply(Max)(V): 5.5; Digital Supply(Min)(V): 2; Eco-Plan: Green (RoHS & no Sb/Br); Mounting Technology: Surface Mount; Code_JEDEC: MO-153; ComponentLink1Description: Manufacturer URL; ComponentLink1URL: http://www.ti.com/; ComponentLink2Description: Datasheet; ComponentLink2URL: http://www.ti.com/general/docs/lit/getliterature.tsp?genericPartNumber=ADS1014&fileType=pdf; ComponentLink3Description: Package Specification; ComponentLink3URL: http://www.ti.com/lit/ml/mpds035b/mpds035b.pdf
footprint TI-DGS10_N (SOP, 10-Leads, Body 3x3mm, Pitch 0.5mm, IPC Medium Density)
footprint TI-DGS10_L (SOP, 10-Leads, Body 3x3mm, Pitch 0.5mm, IPC High Density)
footprint TI-DGS10_M (SOP, 10-Leads, Body 3x3mm, Pitch 0.5mm, IPC Low Density)
pins: 1 ADDR (in) "I2C slave address select", 2 ALERT/RDY (oc) "Digital comparator output or conversion ready", 3 GND (power) "Ground", 4 AIN0 (in) "Differential channel 1: Positive input or single-ended channel 1 input", 5 AIN1 (in) "Differential channel 1: Negative input or single-ended channel 2 input", 6 NC, 7 NC, 8 VDD (power) "Power supply: 2.0V to 5.5V", 9 SDA (io) "Serial data: Transmits and receives data", 10 SCL (in) "Serial clock input: Clocks data on SDA"